# Altium schematic symbol library Schlib1.SchLib: 1 symbol
Pins are listed as number, name and electrical type; pins without a type are passive.

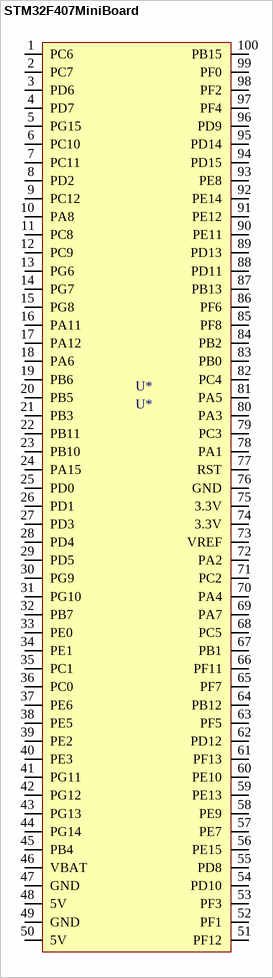
[diagram p0: symbol STM32F407MiniBoard]

## STM32F407MiniBoard
designator U*, comment U*
footprint STM32F407MiniBoard
pins: 1 PC6, 2 PC7, 3 PD6, 4 PD7, 5 PG15, 6 PC10, 7 PC11, 8 PD2, 9 PC12, 10 PA8, 11 PC8, 12 PC9, 13 PG6, 14 PG7, 15 PG8, 16 PA11, 17 PA12, 18 PA6, 19 PB6, 20 PB5, 21 PB3, 22 PB11, 23 PB10, 24 PA15, 25 PD0, 26 PD1, 27 PD3, 28 PD4, 29 PD5, 30 PG9, 31 PG10, 32 PB7, 33 PE0, 34 PE1, 35 PC1, 36 PC0, 37 PE6, 38 PE5, 39 PE2, 40 PE3, 41 PG11, 42 PG12, 43 PG13, 44 PG14, 45 PB4, 46 VBAT, 47 GND, 48 5V, 49 GND, 50 5V, 51 PF12, 52 PF1, 53 PF3, 54 PD10, 55 PD8, 56 PE15, 57 PE7, 58 PE9, 59 PE13, 60 PE10, 61 PF13, 62 PD12, 63 PF5, 64 PB12, 65 PF7, 66 PF11, 67 PB1, 68 PC5, 69 PA7, 70 PA4, 71 PC2, 72 PA2, 73 VREF, 74 3.3V, 75 3.3V, 76 GND, 77 RST, 78 PA1, 79 PC3, 80 PA3, 81 PA5, 82 PC4, 83 PB0, 84 PB2, 85 PF8, 86 PF6, 87 PB13, 88 PD11, 89 PD13, 90 PE11, 91 PE12, 92 PE14, 93 PE8, 94 PD15, 95 PD14, 96 PD9, 97 PF4, 98 PF2, 99 PF0, 100 PB15